# Altium footprint library Soardra.PcbLib: 139 footprints (part 7 of 9)
Each footprint in its own frame and in the unit in brackets; x right, y up, seen from the top. Pads: shape width x height; smd on the part's side, far side on the other; paste and mask are expansions set on the pad; w line width, h text height; cw(c..) or ccw(c..) is an arc to the next point about the centre after c.
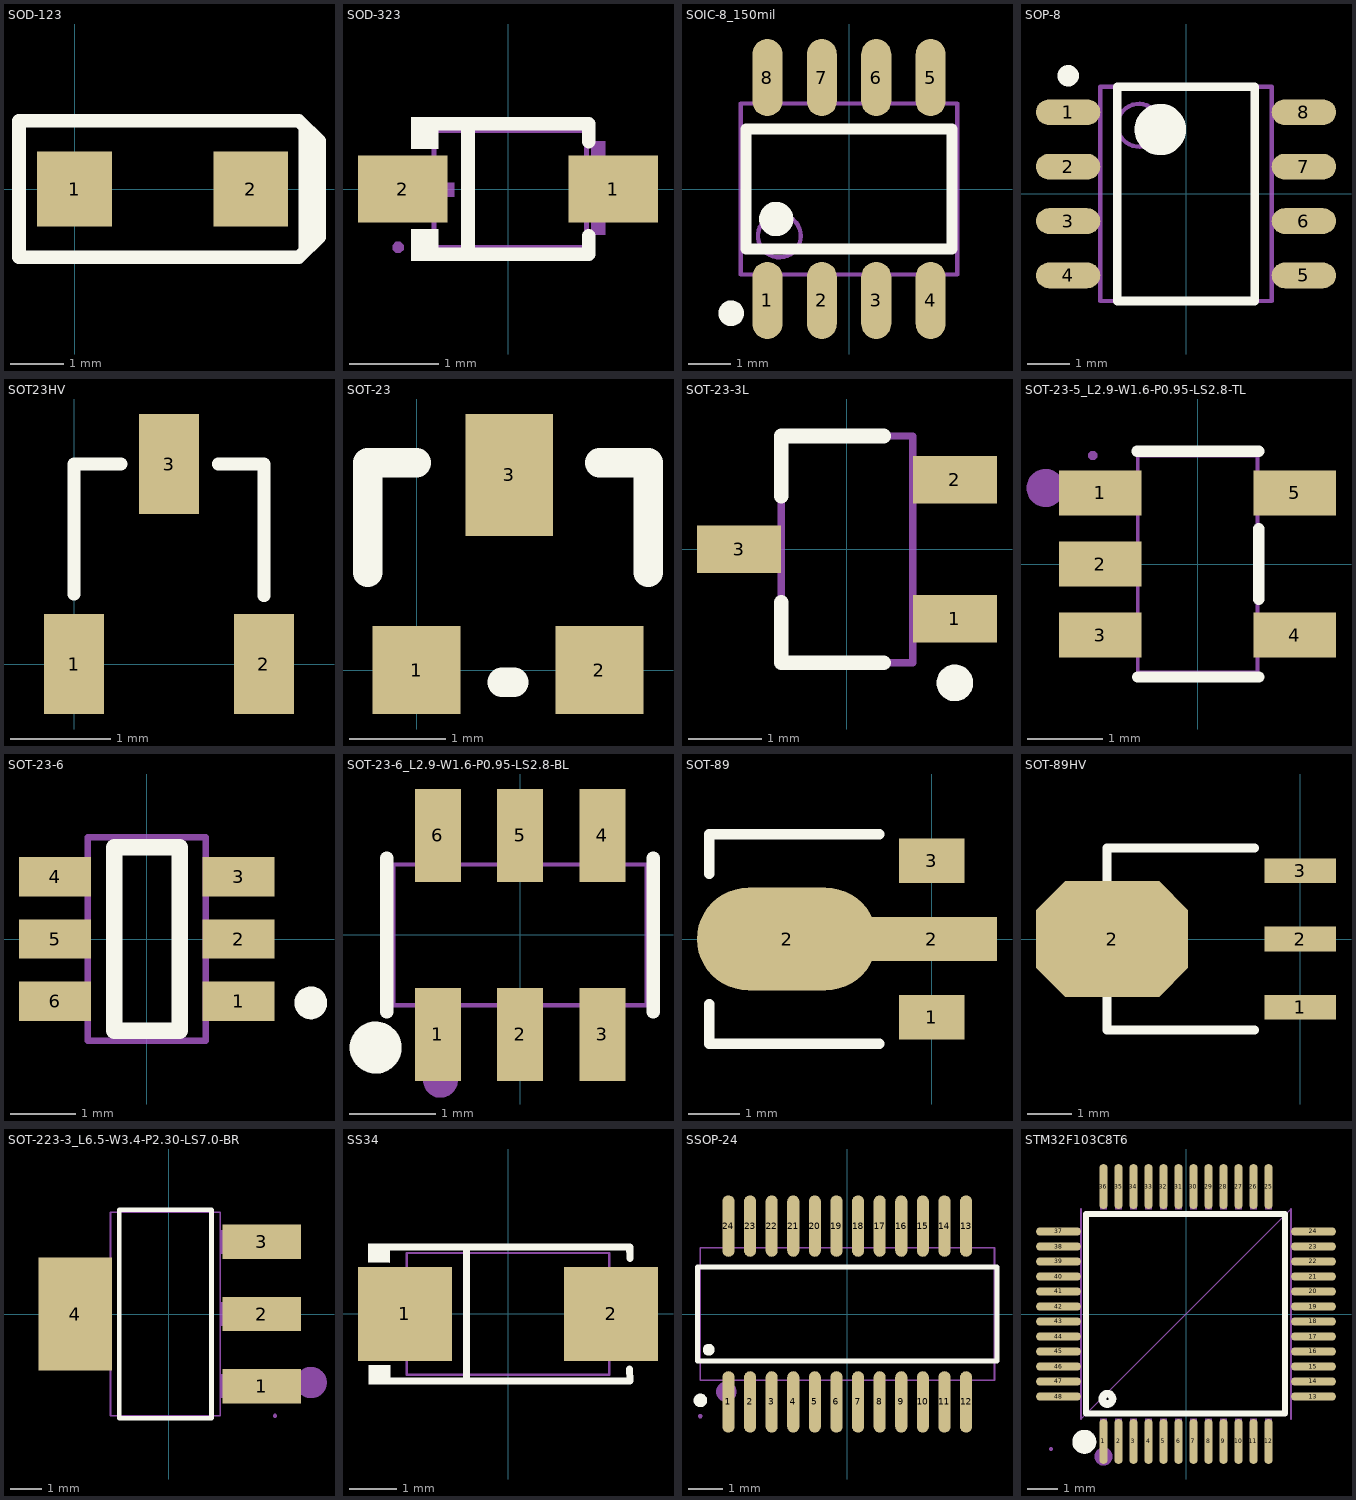
[diagram p6: the footprints below, top view; thin cyan lines are the x and y axes]

## SOD-123 [mm]
height 0.5
pads (2):
  rect 1.4x1.4 smd: 1(0,0) 2(3.3,0)
Top Overlay:
  rectangle: 4.2,-1.24 4.33,1.28
  rectangle: 4.29,-0.99 4.51,0.97
  lines w0.254: -1.04,-1.28 4.2,-1.28 4.58,-0.9 4.58,0.9 4.2,1.28 -1.04,1.28 -1.04,-1.28
3D body: height 1.05, standoff 1, extent 2.6,-1.1 2.7,1.1
3D body: height 1.05, standoff 1, extent 2.8,-1.1 2.9,1.1
3D body: height 1.05, standoff 1, extent 3,-1.1 3.1,1.1
3D body: height 0.25, standoff 0, extent 3.1,-0.6 3.6,0.6
3D body: height 0.25, standoff 0, extent -0.3,-0.6 0.2,0.6
3D body: height 1, standoff 0, extent 0.1,-1.1 3.2,1.1

## SOD-323 [mm]
pads (2):
  rect 1x0.75 smd: 1(1.173,0) 2(-1.173,0)
Top Overlay:
  region: -0.775,0.802 -0.775,0.45 -1.08,0.45 -1.08,0.802
  region: -0.775,-0.802 -0.775,-0.45 -1.08,-0.45 -1.08,-0.802
  lines w0.152: -0.851,-0.726 0.901,-0.726 0.901,-0.52 ; -0.851,0.726 0.901,0.726 0.901,0.53 ; -0.447,-0.726 -0.447,0.726
Mechanical 6:
  region: -1.225,0.07 -1.225,-0.086 -0.601,-0.086 -0.601,0.07
  region: 1.315,0.09 1.315,-0.066 0.691,-0.066 0.691,0.09
  region: 1.083,0.53 1.083,-0.51 0.927,-0.51 0.927,0.53
Mechanical 15:
  region: -1.165,-0.65 -1.165,-0.625 -1.2,-0.59 -1.25,-0.59 -1.285,-0.625 -1.285,-0.65 -1.285,-0.675 -1.25,-0.71 -1.2,-0.71 -1.165,-0.675 -1.165,-0.65
  region: 1.275,0.16 1.275,-0.16 0.975,-0.16 0.975,0.16
  region: 0.985,0.16 0.985,-0.16 0.865,-0.16 0.865,0.16
  region: -0.925,0.16 -0.925,-0.16 -1.225,-0.16 -1.225,0.16
  region: -0.815,0.16 -0.815,-0.16 -0.935,-0.16 -0.935,0.16
  lines w0.051: -0.825,-0.65 0.875,-0.65 0.875,0.65 -0.825,0.65 -0.825,-0.65

## SOIC-8_150mil [mm]
pads (8):
  oval 0.7x1.8 smd: 1(-1.905,-2.6) 2(-0.635,-2.6) 3(0.635,-2.6) 4(1.905,-2.6) 5(1.905,2.6) 6(0.635,2.6) 7(-0.635,2.6) 8(-1.905,2.6)
Top Overlay:
  circle w0.4: c-1.7,-0.7 r0.2
  circle w0.3: c-2.75,-2.9 r0.15
  lines w0.254: -2.4,-1.4 -2.4,1.4 2.4,1.4 2.4,-1.4 -2.4,-1.4
Mechanical 13:
  circle w0.1: c-1.625,-1.095 r0.5
  lines w0.1: -2.525,-1.995 -2.525,1.995 2.525,1.995 2.525,-1.995 -2.525,-1.995

## SOP-8 [mm] "MOS SOP-8"
pads (8):
  oval 1.5x0.6 smd: 1(-2.75,1.905) 2(-2.75,0.635) 3(-2.75,-0.635) 4(-2.75,-1.905) 5(2.75,-1.905) 6(2.75,-0.635) 7(2.75,0.635) 8(2.75,1.905)
Top Overlay:
  circle w0.25: c-2.75,2.755 r0.125
  circle w0.6: c-0.6,1.5 r0.3
  lines w0.2: -1.6,-2.5 -1.6,2.5 1.6,2.5 1.6,-2.5 -1.6,-2.5
Mechanical 13:
  circle w0.1: c-1.1,1.6 r0.5
  lines w0.1: -2,-2.5 -2,2.5 2,2.5 2,-2.5 -2,-2.5
3D body: height 1.42, standoff 0, extent -2,-2.5 2,2.5

## SOT23HV [mm]
height 0.5
pads (3):
  rect 0.6x1 smd: 1(0,0) 2(1.9,0) 3(0.95,2)
Top Overlay:
  lines w0.127: 0,0.698 0,2 0.469,2 ; 1.443,2 1.9,2 1.9,0.683
3D body: height 0.2, standoff 0, extent 0.76,1.75 1.16,2.25
3D body: height 0.2, standoff 0, extent 1.71,0.05 2.11,0.55
3D body: height 0.2, standoff 0, extent -0.19,0.05 0.21,0.55
3D body: height 1, standoff 0, extent -0.49,0.5 2.41,1.8

## SOT-23 [mil]
pads (3):
  rect 36x36 smd: 1(0,0) 2(75,0)
  rect 36x50 smd: 3(38,80)
Top Overlay:
  lines w12: -20,40 -20,85 0,85 ; 35,-5 40,-5 ; 75,85 95,85 95,40

## SOT-23-3L [mm] "http://www.aosmd.com/res/packaging_information/SOT-23-3L.pdf"
height 1.25
pads (3):
  rect 1.15x0.65 smd: 1(1.475,-0.95) 2(1.475,0.95) 3(-1.475,0)
Top Overlay:
  circle w0.25: c1.475,-1.825 r0.125
  lines w0.2: -0.9,-0.725 -0.9,-1.55 0.5,-1.55 ; -0.9,0.725 -0.9,1.55 0.5,1.55
Mechanical 13:
  lines w0.1: -0.9,-1.55 -0.9,1.55 0.9,1.55 0.9,-1.55 -0.9,-1.55
3D body: height 1.25, standoff 0, extent -0.9,-1.55 0.9,1.55

## SOT-23-5_L2.9-W1.6-P0.95-LS2.8-TL [mm]
pads (5):
  rect 1.1x0.6 smd paste+0 mask+0.05: 1(-1.3,0.95) 2(-1.3,0) 3(-1.3,-0.95) 4(1.3,-0.95) 5(1.3,0.95)
Top Overlay:
  lines w0.15: -0.811,1.508 0.819,1.508 ; -0.8,-1.51 0.82,-1.51 ; 0.819,-0.471 0.819,0.471
Mechanical 6:
  circle w0.254: c-2.032,1.016 r0.127
Mechanical 15:
  region: 0.95,1.15 1.4,1.15 1.4,0.75 0.95,0.75
  region: 0.79,1.15 0.96,1.15 0.96,0.75 0.79,0.75
  region: 0.95,-0.75 1.4,-0.75 1.4,-1.15 0.95,-1.15
  region: 0.79,-0.75 0.96,-0.75 0.96,-1.15 0.79,-1.15
  region: -1.4,1.15 -0.95,1.15 -0.95,0.75 -1.4,0.75
  region: -0.96,1.15 -0.79,1.15 -0.79,0.75 -0.96,0.75
  region: -1.4,-0.75 -0.95,-0.75 -0.95,-1.15 -1.4,-1.15
  region: -0.96,-0.75 -0.79,-0.75 -0.79,-1.15 -0.96,-1.15
  region: -1.4,0.2 -0.95,0.2 -0.95,-0.2 -1.4,-0.2
  region: -0.96,0.2 -0.79,0.2 -0.79,-0.2 -0.96,-0.2
  region: -1.34,1.45 -1.34,1.475 -1.375,1.51 -1.425,1.51 -1.46,1.475 -1.46,1.45 -1.46,1.425 -1.425,1.39 -1.375,1.39 -1.34,1.425 -1.34,1.45
  lines w0.051: -0.8,-1.45 -0.8,1.45 0.8,1.45 0.8,-1.45 -0.8,-1.45

## SOT-23-6 [mm]
height 0.5
pads (6):
  rect 1.1x0.6 smd: 1(1.4,-0.95) 2(1.4,0) 3(1.4,0.95) 4(-1.4,0.95) 5(-1.4,0) 6(-1.4,-0.95)
Top Overlay:
  circle w0.25: c2.5,-0.974 r0.125
  lines w0.254: -0.5,-1.4 -0.5,1.4 0.5,1.4 0.5,-1.4 -0.5,-1.4
Mechanical 13:
  lines w0.1: -0.9,-1.55 -0.9,1.55 0.9,1.55 0.9,-1.55 -0.9,-1.55

## SOT-23-6_L2.9-W1.6-P0.95-LS2.8-BL [mm]
pads (6):
  rect 0.532x1.072 smd paste+0 mask+0.051: 1(-0.95,-1.149) 2(0,-1.149) 3(0.95,-1.149) 4(0.95,1.149) 5(0,1.149) 6(-0.95,1.149)
Top Overlay:
  circle w0.3: c-1.668,-1.301 r0.15
  lines w0.152: -1.539,-0.889 -1.539,0.889 ; 1.539,-0.889 1.539,0.889
Mechanical 6:
  circle w0.2: c-0.92,-1.68 r0.1
Mechanical 15:
  region: -1.403,-1.4 -1.403,-1.375 -1.438,-1.34 -1.488,-1.34 -1.523,-1.375 -1.523,-1.4 -1.523,-1.425 -1.488,-1.46 -1.438,-1.46 -1.403,-1.425 -1.403,-1.4
  region: -1.165,-0.925 -0.735,-0.925 -0.735,-1.4 -1.165,-1.4
  region: -1.165,-0.803 -0.735,-0.803 -0.735,-0.935 -1.165,-0.935
  region: -0.215,-0.925 0.215,-0.925 0.215,-1.4 -0.215,-1.4
  region: -0.215,-0.803 0.215,-0.803 0.215,-0.935 -0.215,-0.935
  region: 0.735,-0.925 1.165,-0.925 1.165,-1.4 0.735,-1.4
  region: 0.735,-0.803 1.165,-0.803 1.165,-0.935 0.735,-0.935
  region: 0.735,0.925 1.165,0.925 1.165,1.4 0.735,1.4
  region: 0.735,0.935 1.165,0.935 1.165,0.803 0.735,0.803
  region: -0.215,0.925 0.215,0.925 0.215,1.4 -0.215,1.4
  region: -0.215,0.935 0.215,0.935 0.215,0.803 -0.215,0.803
  region: -1.165,0.925 -0.735,0.925 -0.735,1.4 -1.165,1.4
  region: -1.165,0.935 -0.735,0.935 -0.735,0.803 -1.165,0.803
  lines w0.051: -1.463,-0.813 1.463,-0.813 1.463,0.813 -1.463,0.813 -1.463,-0.813

## SOT-89 [mil]
height 19.68
pads (4):
  rect 50x34 smd: 1(0,-60) 3(0,60)
  oval 137.8x78.74 smd: 2(-110.63,0)
  rect 100x34 smd: 2(0,0)
Top Overlay:
  lines w8: -170,-50 -170,-80 -40,-80 ; -170,50 -170,80 -40,80
3D body: height 98.43, standoff 0, extent -170,-80 -40,80
3D body: height 9.84, standoff 0, extent -43.31,-70.87 11.81,-47.24
3D body: height 9.84, standoff 0, extent -43.31,-10.87 11.81,12.76
3D body: height 9.84, standoff 0, extent -43.31,49.13 11.81,72.76
3D body: height 9.84, standoff 0, extent -185.04,-31.5 -169.29,31.5

## SOT-89HV [mm]
height 0.5
pads (4):
  rect 1.6x0.55 smd: 1(0,-1.524) 2(0,0) 3(0,1.524)
  oct 3.4x2.6 smd: 2(-4.2,0)
Top Overlay:
  lines w0.203: -4.318,-1.27 -4.318,-2.032 -1.016,-2.032 ; -4.318,1.27 -4.318,2.032 -1.016,2.032
3D body: height 0.25, standoff 0, extent -4.7,-0.8 -4.3,0.8
3D body: height 0.25, standoff 0, extent -1.1,1.248 0.3,1.848
3D body: height 0.25, standoff 0, extent -1.1,-0.276 0.3,0.324
3D body: height 0.25, standoff 0, extent -1.1,-1.8 0.3,-1.2
3D body: height 2.5, standoff 0, extent -4.318,-2.032 -1.016,2.032

## SOT-223-3_L6.5-W3.4-P2.30-LS7.0-BR [mm]
pads (4):
  rect 2.5x1.1 smd paste+0 mask+0.051: 1(2.97,-2.3) 2(2.97,0) 3(2.97,2.3)
  rect 2.34x3.6 smd paste+0 mask+0.051: 4(-2.97,0)
Top Overlay:
  lines w0.152: -1.571,-3.326 1.371,-3.326 1.371,3.326 -1.571,3.326 -1.571,-3.326
Mechanical 6:
  circle w0.5: c4.552,-2.188 r0.25
Mechanical 15:
  region: -3.6,-1.5 -3.6,1.5 -2.85,1.5 -2.85,-1.5
  region: -2.86,-1.5 -2.86,1.5 -1.84,1.5 -1.84,-1.5
  region: 2.65,-2.675 2.65,-1.925 3.4,-1.925 3.4,-2.675
  region: 1.64,-2.675 1.64,-1.925 2.66,-1.925 2.66,-2.675
  region: 2.65,-0.375 2.65,0.375 3.4,0.375 3.4,-0.375
  region: 1.64,-0.375 1.64,0.375 2.66,0.375 2.66,-0.375
  region: 2.65,1.925 2.65,2.675 3.4,2.675 3.4,1.925
  region: 1.64,1.925 1.64,2.675 2.66,2.675 2.66,1.925
  region: 3.46,-3.25 3.46,-3.225 3.425,-3.19 3.375,-3.19 3.34,-3.225 3.34,-3.25 3.34,-3.275 3.375,-3.31 3.425,-3.31 3.46,-3.275 3.46,-3.25
  lines w0.051: -1.85,-3.25 1.65,-3.25 1.65,3.25 -1.85,3.25 -1.85,-3.25

## SS34 [mm] "肖特?"
height 0.5
pads (2):
  rect 2x2 smd: 1(-2.2,0) 2(2.2,0)
Top Overlay:
  region: -2.52,1.502 -2.521,1.096 -2.981,1.1 -2.977,1.502
  region: -2.512,-1.096 -2.513,-1.503 -2.973,-1.498 -2.969,-1.096
  lines w0.152: -2.596,-1.426 2.596,-1.426 ; -2.596,1.426 2.596,1.426 2.603,1.187 ; -0.884,-1.426 -0.884,1.426 ; 2.593,-1.176 2.6,-1.415
Mechanical 6:
  region: -2.317,-0.101 -2.317,0.101 -1.507,0.101 -1.507,-0.101
  region: 2.29,-0.09 2.29,0.112 1.48,0.112 1.48,-0.09
  region: 2.014,-0.675 2.014,0.675 1.811,0.675 1.811,-0.675
Mechanical 15:
  region: -2.545,-1.3 -2.545,-1.275 -2.58,-1.24 -2.63,-1.24 -2.665,-1.275 -2.665,-1.3 -2.665,-1.325 -2.63,-1.36 -2.58,-1.36 -2.545,-1.325 -2.545,-1.3
  region: 2.605,0.725 2.605,-0.725 1.48,-0.725 1.48,0.725
  region: -1.48,0.725 -1.48,-0.725 -2.605,-0.725 -2.605,0.725
  lines w0.051: -2.16,-1.3 -2.16,1.3 2.16,1.3 2.16,-1.3 -2.16,-1.3

## SSOP-24 [mil]
pads (24):
  oval 14x71.06 smd mask+2: 1(-137.5,-101.77) 2(-112.5,-101.77) 3(-87.5,-101.77) 4(-62.5,-101.77) 5(-37.5,-101.77) 6(-12.5,-101.77) 7(12.5,-101.77) 8(37.5,-101.77) 9(62.5,-101.77) 10(87.5,-101.77) 11(112.5,-101.77) 12(137.5,-101.77) 13(137.5,101.77) 14(112.5,101.77) 15(87.5,101.77) 16(62.5,101.77) 17(37.5,101.77) 18(12.5,101.77) 19(-12.5,101.77) 20(-37.5,101.77) 21(-62.5,101.77) 22(-87.5,101.77) 23(-112.5,101.77) 24(-137.5,101.77)
Top Overlay:
  circle w7.87: c-170,-100 r3.94
  circle w6.89: c-160.39,-41.35 r3.44
  lines w6: -173.28,-54.24 173.28,-54.24 173.28,54.24 -173.28,54.24 -173.28,-54.24
Mechanical 6:
  circle w11.81: c-140,-90 r5.91
Mechanical 15:
  drawing of 53 lines, arcs and shapes, not listed

## STM32F103C8T6 [mm] "48PIN"
height 0.5
pads (48):
  oval 0.27x1.5 smd paste+0 mask+0.05: 1(-2.75,-4.25) 2(-2.25,-4.25) 3(-1.75,-4.25) 4(-1.25,-4.25) 5(-0.75,-4.25) 6(-0.25,-4.25) 7(0.25,-4.25) 8(0.75,-4.25) 9(1.25,-4.25) 10(1.75,-4.25) 11(2.25,-4.25) 12(2.75,-4.25) 25(2.75,4.25) 26(2.25,4.25) 27(1.75,4.25) 28(1.25,4.25) 29(0.75,4.25) 30(0.25,4.25) 31(-0.25,4.25) 32(-0.75,4.25) 33(-1.25,4.25) 34(-1.75,4.25) 35(-2.25,4.25) 36(-2.75,4.25)
  oval 1.5x0.27 smd paste+0 mask+0.05: 13(4.25,-2.75) 14(4.25,-2.25) 15(4.25,-1.75) 16(4.25,-1.25) 17(4.25,-0.75) 18(4.25,-0.25) 19(4.25,0.25) 20(4.25,0.75) 21(4.25,1.25) 22(4.25,1.75) 23(4.25,2.25) 24(4.25,2.75) 37(-4.25,2.75) 38(-4.25,2.25) 39(-4.25,1.75) 40(-4.25,1.25) 41(-4.25,0.75) 42(-4.25,0.25) 43(-4.25,-0.25) 44(-4.25,-0.75) 45(-4.25,-1.25) 46(-4.25,-1.75) 47(-4.25,-2.25) 48(-4.25,-2.75)
Top Overlay:
  circle w0.254: c-2.62,-2.83 r0.17
  lines w0.2: -2.896,3.34 3.302,3.34 3.302,-3.315 -3.327,-3.315 -3.327,3.34 -2.565,3.34
  lines w0.4: -3.39,-4.06 ccw(c-3.389,-4.26) -3.387,-4.06
Mechanical 6:
  circle w0.3: c-2.75,-4.75 r0.15
Mechanical 15:
  drawing of 101 lines, arcs and shapes, not listed